# Altium footprint library PcbLib2.PcbLib: 1 footprints
Each footprint in its own frame and in the unit in brackets; x right, y up, seen from the top. Pads: shape width x height; smd on the part's side, far side on the other; paste and mask are expansions set on the pad; w line width, h text height; cw(c..) or ccw(c..) is an arc to the next point about the centre after c.
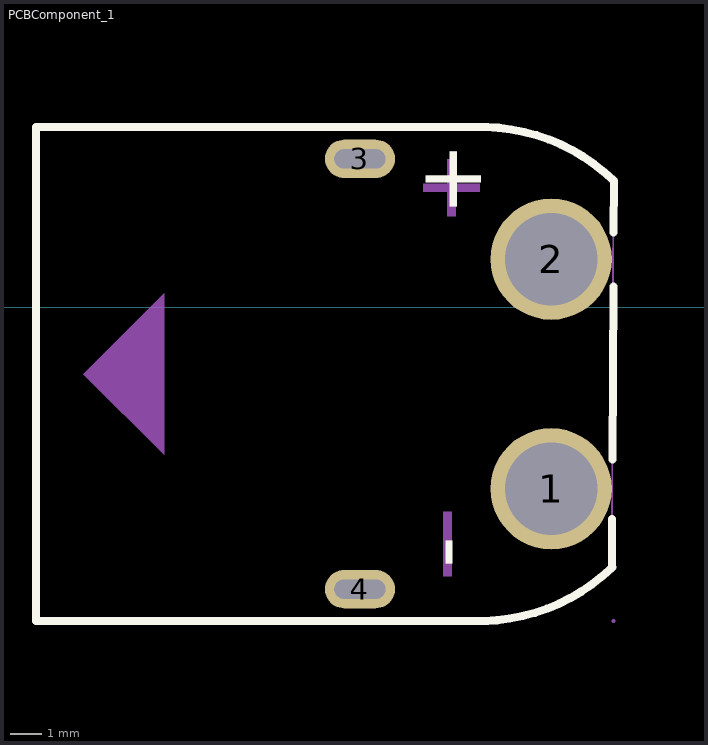
[diagram p0: the footprint, top view; thin cyan lines are the x and y axes]

## PCBComponent_1 [mm]
pads (4):
  round 3.8 hole 2.9 paste-2539.97 mask+0.05: 1(51.599,-5.699) 2(51.599,1.501)
  oval 2.2x1.2 hole 0.6 slot 1.6 at 0 deg paste-2539.97 mask+0.05: 3(45.599,4.651) 4(45.599,-8.849)
Top Overlay:
  lines w0.254: 49.487,-9.846 ccw(c49.345,-3.848) 53.515,-8.161 ; 49.535,5.648 cw(c49.393,-0.35) 53.563,3.963 53.555,2.342 ; 49.598,-9.849 35.433,-9.849 35.433,5.651 49.598,5.651 ; 53.5,-8.093 53.508,-6.643 ; 53.518,-4.775 53.546,0.639
  text "+" at 49.409,2.854 h2.03
  text "-" at 49.155,-8.195 h2.03
Mechanical 6:
  region: 48.218,-6.417 48.472,-6.417 48.472,-8.449 48.218,-8.449
  region: 48.345,4.632 48.599,4.632 48.599,3.87 49.361,3.87 49.361,3.616 48.599,3.616 48.599,2.854 48.345,2.854 48.345,3.616 47.583,3.616 47.583,3.87 48.345,3.87
  region: 39.454,0.441 39.454,-4.639 36.914,-2.099
Mechanical 15:
  region: 46.199,-8.649 46.199,-9.049 44.999,-9.049 44.999,-8.649
  region: 46.199,4.851 46.199,4.451 44.999,4.451 44.999,4.851
  region: 52.599,-5.699 52.599,-5.567 52.53,-5.313 52.399,-5.085 52.213,-4.899 51.985,-4.767 51.73,-4.699 51.467,-4.699 51.212,-4.767 50.984,-4.899 50.798,-5.085 50.666,-5.313 50.598,-5.567 50.598,-5.699 50.598,-5.831 50.666,-6.085 50.798,-6.313 50.984,-6.499 51.212,-6.631 51.467,-6.699 51.73,-6.699 51.985,-6.631 52.213,-6.499 52.399,-6.313 52.53,-6.085 52.599,-5.831 52.599,-5.699
  region: 52.599,1.501 52.599,1.633 52.53,1.887 52.399,2.115 52.213,2.301 51.985,2.433 51.73,2.501 51.467,2.501 51.212,2.433 50.984,2.301 50.798,2.115 50.666,1.887 50.598,1.633 50.598,1.501 50.598,1.369 50.666,1.115 50.798,0.887 50.984,0.701 51.212,0.569 51.467,0.501 51.73,0.501 51.985,0.569 52.213,0.701 52.399,0.887 52.53,1.115 52.599,1.369 52.599,1.501
  region: 53.611,-9.846 53.61,-9.822 53.576,-9.789 53.527,-9.789 53.493,-9.822 53.492,-9.846 53.493,-9.87 53.527,-9.904 53.576,-9.904 53.61,-9.87 53.611,-9.846
  lines w0.051: 35.433,-9.846 35.433,5.648 49.614,5.648 50.376,5.521 51.392,5.267 52.408,4.759 53.424,3.997 53.551,3.87 53.5,-8.093 53.297,-8.322 52.535,-8.957 51.773,-9.338 50.757,-9.592 49.741,-9.846 35.433,-9.846